# Altium footprint library LED_clock.PcbLib: 1 footprints
Each footprint in its own frame and in the unit in brackets; x right, y up, seen from the top. Pads: shape width x height; smd on the part's side, far side on the other; paste and mask are expansions set on the pad; w line width, h text height; cw(c..) or ccw(c..) is an arc to the next point about the centre after c.
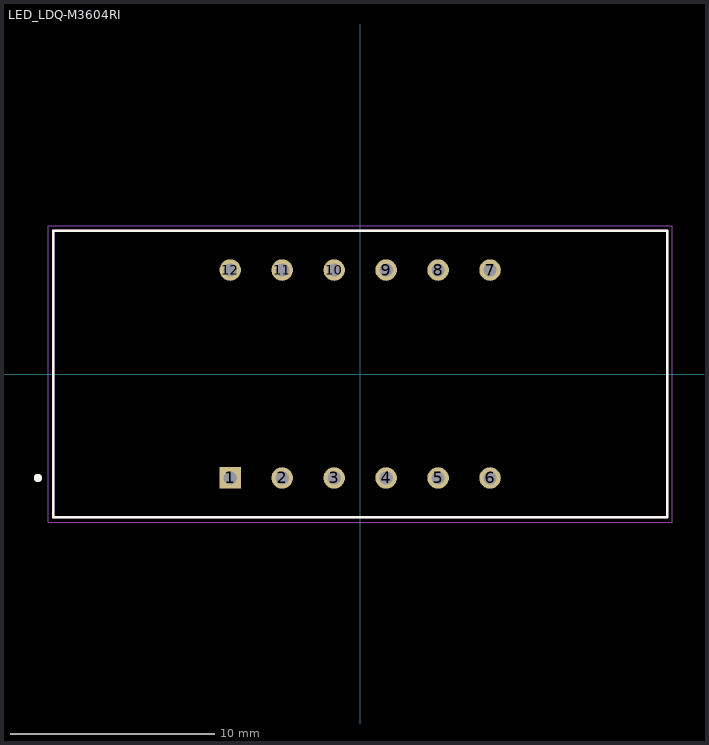
[diagram p0: the footprint, top view; thin cyan lines are the x and y axes]

## LED_LDQ-M3604RI [mm]
height 7.2
pads (12):
  rect 1.05x1.05 / inner round 1.05 / far side rect 1.05x1.05 hole 0.65: 1(-6.35,-5.08)
  round 1.05 hole 0.65: 2(-3.81,-5.08) 3(-1.27,-5.08) 4(1.27,-5.08) 5(3.81,-5.08) 6(6.35,-5.08) 7(6.35,5.08) 8(3.81,5.08) 9(1.27,5.08) 10(-1.27,5.08) 11(-3.81,5.08) 12(-6.35,5.08)
Top Overlay:
  circle w0.2: c-15.75,-5.08 r0.1
  lines w0.127: -15,-7 15,-7 15,7 -15,7 -15,-7
Mechanical 13:
  circle w0.2: c-15.75,-5.08 r0.1
  lines w0.127: -15,-7 15,-7 15,7 -15,7 -15,-7
Mechanical 15:
  lines w0.05: -15.25,-7.25 15.25,-7.25 15.25,7.25 -15.25,7.25 -15.25,-7.25
3D body "LDQ-clock.step": height 7.2, standoff -6.1, extent -15,-7 15,7